# Altium integrated library NSC LDO.IntLib: 2590 symbols (part 2 of 64)
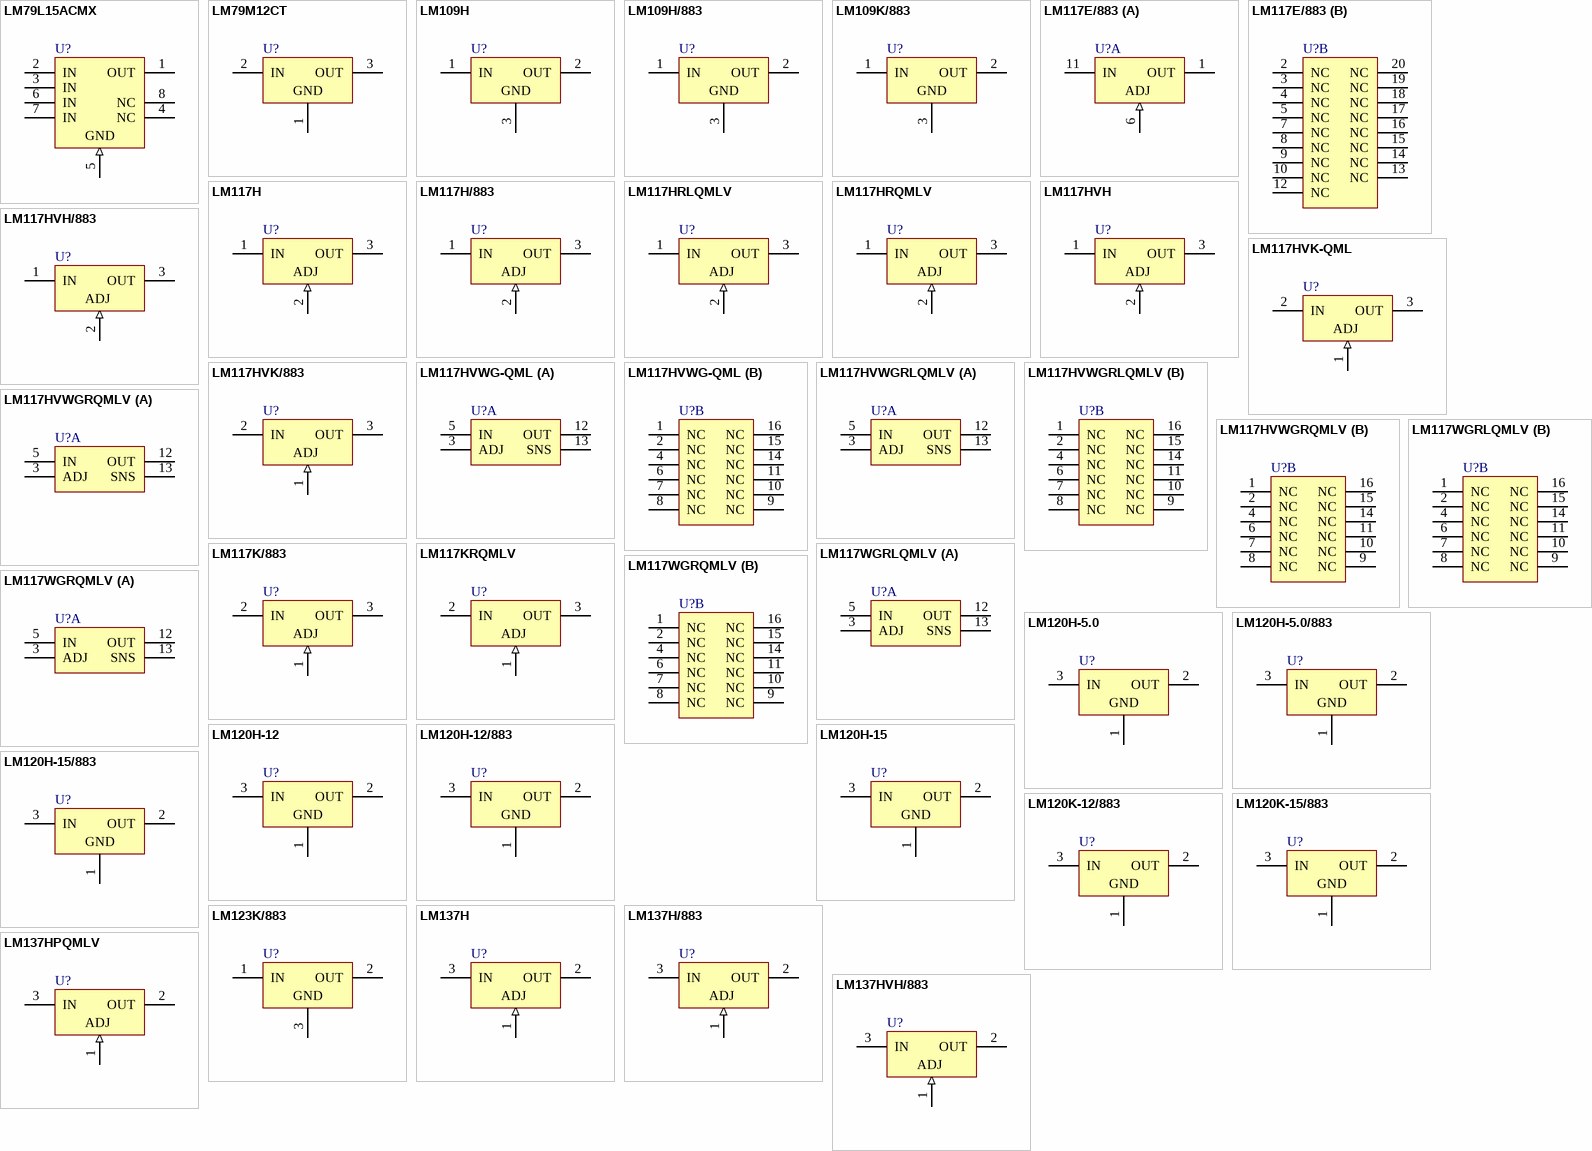
[diagram p66: symbols LM79L15ACMX to LM137HVH/883]

## LM117E/883
designator U?
3-Terminal Adjustable Regulator, 20-pin LCC; PartNumber: LM117E/883; Manufacturer: National Semiconductor; PackageTopMarking: NSZSSXXYYA*LM117E*/883 Q; PowerWise: N; CompType: LDO IC; High-Reliability: Y; Published: 4-Dec-2008; DatasheetVersion: Mar-2010; PackageVersion: revF, May-2004; PackageReference: E20A; Publisher: Altium Limited; PackageDescription: Leadless Chip Carrier, Type C, 20 Terminal; RoHS: N; PinCount: 20; Code_JEDEC: MS-004-CB; ComponentLink1Description: LM117 Datasheet; ComponentLink1URL: http://www.national.com/ds/LM/LM117QML.pdf; ComponentLink2Description: LM117 Web Page; ComponentLink2URL: http://www.national.com/pf/LM/LM117.html; ComponentLink3Description: E20A Package Page; ComponentLink3URL: http://www.national.com/packaging/folders/e20a.html
footprint E20A_N (Leadless Chip Carrier, 20-Leads, Body 8.9x8.9mm, Pitch 1.27mm, IPC Medium Density)
footprint E20A_L (Leadless Chip Carrier, 20-Leads, Body 8.9x8.9mm, Pitch 1.27mm, IPC High Density)
footprint E20A_M (Leadless Chip Carrier, 20-Leads, Body 8.9x8.9mm, Pitch 1.27mm, IPC Low Density)
part A pins: 1 OUT (power), 6 ADJ (in), 11 IN (power)
part B pins: 2 NC, 3 NC, 4 NC, 5 NC, 7 NC, 8 NC, 9 NC, 10 NC, 12 NC, 13 NC, 14 NC, 15 NC, 16 NC, 17 NC, 18 NC, 19 NC, 20 NC

## LM117H
designator U?
3-Terminal Adjustable Regulator, 3-pin TO-39; PartNumber: LM117H; Manufacturer: National Semiconductor; PackageTopMarking: NSZXYTTE# LM117HP+; PowerWise: N; CompType: LDO IC; High-Reliability: Y; Published: 4-Dec-2008; DatasheetVersion: Mar-2010; PackageVersion: revD, Feb-1995; PackageReference: H03A; Publisher: Altium Limited; PackageDescription: Metal Can, TO-39, 3 Lead, .200in Dia, P.C.; Supplier 1: Farnell; Supplier Part Number 1: 1216176; RoHS: N; PinCount: 3; Code_JEDEC: TO-39; ComponentLink1Description: LM117 Datasheet; ComponentLink1URL: http://www.national.com/ds/LM/LM117.pdf; ComponentLink2Description: LM117 Web Page; ComponentLink2URL: http://www.national.com/pf/LM/LM117.html; ComponentLink3Description: H03A Package Page; ComponentLink3URL: http://www.national.com/packaging/folders/h03a.html
footprint H03A (Can; 3 Leads; Pin Circle Dia. 5.08 mm; Lead Dia. 0.48 mm (max))
pins: 1 IN (power), 2 ADJ (in), 3 OUT (power)

## LM117H/883
designator U?
3-Terminal Adjustable Regulator, 3-pin TO-39; PartNumber: LM117H/883; Manufacturer: National Semiconductor; PackageTopMarking: NSZSSXXYYA LM117H/883 Q; PowerWise: N; CompType: LDO IC; High-Reliability: Y; Published: 4-Dec-2008; DatasheetVersion: Mar-2010; PackageVersion: revD, Feb-1995; PackageReference: H03A; Publisher: Altium Limited; PackageDescription: Metal Can, TO-39, 3 Lead, .200in Dia, P.C.; RoHS: N; PinCount: 3; Code_JEDEC: TO-39; ComponentLink1Description: LM117 Datasheet; ComponentLink1URL: http://www.national.com/ds/LM/LM117QML.pdf; ComponentLink2Description: LM117 Web Page; ComponentLink2URL: http://www.national.com/pf/LM/LM117.html; ComponentLink3Description: H03A Package Page; ComponentLink3URL: http://www.national.com/packaging/folders/h03a.html
footprint H03A (Can; 3 Leads; Pin Circle Dia. 5.08 mm; Lead Dia. 0.48 mm (max))
pins: 1 IN (power), 2 ADJ (in), 3 OUT (power)

## LM117HRLQMLV
designator U?
3-Terminal Adjustable Regulator, 3-pin TO-39; PartNumber: LM117HRLQMLV; Manufacturer: National Semiconductor; PackageTopMarking: NSZSSXXYYA 5962R99517*05VXA LM117HRLQV Q; PowerWise: N; CompType: LDO IC; High-Reliability: Y; Published: 4-Dec-2008; DatasheetVersion: Mar-2010; PackageVersion: revD, Feb-1995; PackageReference: H03A; Publisher: Altium Limited; PackageDescription: Metal Can, TO-39, 3 Lead, .200in Dia, P.C.; RoHS: N; PinCount: 3; Code_JEDEC: TO-39; ComponentLink1Description: LM117 Datasheet; ComponentLink1URL: http://www.national.com/ds/LM/LM117QML.pdf; ComponentLink2Description: LM117 Web Page; ComponentLink2URL: http://www.national.com/pf/LM/LM117.html; ComponentLink3Description: H03A Package Page; ComponentLink3URL: http://www.national.com/packaging/folders/h03a.html
footprint H03A (Can; 3 Leads; Pin Circle Dia. 5.08 mm; Lead Dia. 0.48 mm (max))
pins: 1 IN (power), 2 ADJ (in), 3 OUT (power)

## LM117HRQMLV
designator U?
3-Terminal Adjustable Regulator, 3-pin TO-39; PartNumber: LM117HRQMLV; Manufacturer: National Semiconductor; PackageTopMarking: NSZSSXXYYA*03VXA LM117HRQV Q; PowerWise: N; CompType: LDO IC; High-Reliability: Y; Published: 4-Dec-2008; DatasheetVersion: Mar-2010; PackageVersion: revD, Feb-1995; PackageReference: H03A; Publisher: Altium Limited; PackageDescription: Metal Can, TO-39, 3 Lead, .200in Dia, P.C.; RoHS: N; PinCount: 3; Code_JEDEC: TO-39; ComponentLink1Description: LM117 Datasheet; ComponentLink1URL: http://www.national.com/ds/LM/LM117QML.pdf; ComponentLink2Description: LM117 Web Page; ComponentLink2URL: http://www.national.com/pf/LM/LM117.html; ComponentLink3Description: H03A Package Page; ComponentLink3URL: http://www.national.com/packaging/folders/h03a.html
footprint H03A (Can; 3 Leads; Pin Circle Dia. 5.08 mm; Lead Dia. 0.48 mm (max))
pins: 1 IN (power), 2 ADJ (in), 3 OUT (power)

## LM117HVH
designator U?
3-Terminal Adjustable Regulator, 3-pin TO-39; PartNumber: LM117HVH; Manufacturer: National Semiconductor; PackageTopMarking: NSZXYTTE# LM117HVHP+; PowerWise: N; CompType: LDO IC; High-Reliability: Y; Published: 4-Dec-2008; DatasheetVersion: Apr-2000; PackageVersion: revD, Feb-1995; PackageReference: H03A; Publisher: Altium Limited; PackageDescription: Metal Can, TO-39, 3 Lead, .200in Dia, P.C.; Supplier 1: Farnell; Supplier Part Number 1: 1652288; RoHS: N; PinCount: 3; Code_JEDEC: TO-39; ComponentLink1Description: LM117HV Datasheet; ComponentLink1URL: http://www.national.com/ds/LM/LM117HV.pdf; ComponentLink2Description: LM117HV Web Page; ComponentLink2URL: http://www.national.com/pf/LM/LM117HV.html; ComponentLink3Description: H03A Package Page; ComponentLink3URL: http://www.national.com/packaging/folders/h03a.html
footprint H03A (Can; 3 Leads; Pin Circle Dia. 5.08 mm; Lead Dia. 0.48 mm (max))
pins: 1 IN (power), 2 ADJ (in), 3 OUT (power)

## LM117HVH/883
designator U?
3-Terminal Adjustable Regulator, 3-pin TO-39; PartNumber: LM117HVH/883; Manufacturer: National Semiconductor; PackageTopMarking: NS ZSSXXYYA*LM117HVH/883 Q; PowerWise: N; CompType: LDO IC; High-Reliability: Y; Published: 4-Dec-2008; DatasheetVersion: Apr-2000; PackageVersion: revD, Feb-1995; PackageReference: H03A; Publisher: Altium Limited; PackageDescription: Metal Can, TO-39, 3 Lead, .200in Dia, P.C.; RoHS: N; PinCount: 3; Code_JEDEC: TO-39; ComponentLink1Description: LM117HV Datasheet; ComponentLink1URL: http://www.national.com/ds/LM/LM117HVQML.pdf; ComponentLink2Description: LM117HV Web Page; ComponentLink2URL: http://www.national.com/pf/LM/LM117HV.html; ComponentLink3Description: H03A Package Page; ComponentLink3URL: http://www.national.com/packaging/folders/h03a.html
footprint H03A (Can; 3 Leads; Pin Circle Dia. 5.08 mm; Lead Dia. 0.48 mm (max))
pins: 1 IN (power), 2 ADJ (in), 3 OUT (power)

## LM117HVK-QML
designator U?
3-Terminal Adjustable Regulator, 3-pin TO-3; PartNumber: LM117HVK-QML; Manufacturer: National Semiconductor; PackageTopMarking: NSZSSXXYYA*-0722903QYA*LM117HVK*-QML Q; PowerWise: N; CompType: LDO IC; High-Reliability: Y; Published: 4-Dec-2008; DatasheetVersion: Apr-2000; PackageVersion: revE, Sep-1995; PackageReference: K02C; Publisher: Altium Limited; PackageDescription: Metal Can TO-3, 2 Lead, Low Profile; RoHS: N; PinCount: 2; ComponentLink1Description: LM117HV Datasheet; ComponentLink1URL: http://www.national.com/ds/LM/LM117HVQML.pdf; ComponentLink2Description: LM117HV Web Page; ComponentLink2URL: http://www.national.com/pf/LM/LM117HV.html; ComponentLink3Description: K02C Package Page; ComponentLink3URL: http://www.national.com/packaging/folders/k02c.html
footprint K02C (Oval Flange Mount with (2) Offset Leads; Pin Spacing 10.92 mm; Lead Dia. 1.09 mm (max))
pins: 1 ADJ (in), 2 IN (power), 3 OUT (power)

## LM117HVK/883
designator U?
3-Terminal Adjustable Regulator, 3-pin TO-3; PartNumber: LM117HVK/883; Manufacturer: National Semiconductor; PowerWise: N; CompType: LDO IC; High-Reliability: Y; Published: 4-Dec-2008; DatasheetVersion: Apr-2000; PackageVersion: revE, Sep-1995; PackageReference: K02C; Publisher: Altium Limited; PackageDescription: Metal Can TO-3, 2 Lead, Low Profile; Supplier 1: Digi-Key; Supplier Part Number 1: LM117HVK/883-ND; RoHS: N; PinCount: 2; ComponentLink1Description: LM117HV Datasheet; ComponentLink1URL: http://www.national.com/ds/LM/LM117HVQML.pdf; ComponentLink2Description: LM117HV Web Page; ComponentLink2URL: http://www.national.com/pf/LM/LM117HV.html; ComponentLink3Description: K02C Package Page; ComponentLink3URL: http://www.national.com/packaging/folders/k02c.html
footprint K02C (Oval Flange Mount with (2) Offset Leads; Pin Spacing 10.92 mm; Lead Dia. 1.09 mm (max))
pins: 1 ADJ (in), 2 IN (power), 3 OUT (power)

## LM117HVWG-QML
designator U?
3-Terminal Adjustable Regulator, 16-pin CerPACK; PartNumber: LM117HVWG-QML; Manufacturer: National Semiconductor; PackageTopMarking: NSZSSXXYYA*LM117HVWG*QML Q 5962*-0722901QZA; PowerWise: N; CompType: LDO IC; High-Reliability: Y; Published: 29-May-2009; DatasheetVersion: Feb-2008; PackageVersion: revE, Jul-2007; PackageReference: WG16A; Publisher: Altium Limited; PackageDescription: Cerpack, .390 x .250 x .070in, 16 Lead, .050in Pitch, Gull Wing; RoHS: N; PinCount: 16; ComponentLink1Description: LM117HV Datasheet; ComponentLink1URL: http://www.national.com/ds/LM/LM117HVQML.pdf; ComponentLink2Description: LM117HV Web Page; ComponentLink2URL: http://www.national.com/pf/LM/LM117HV.html; ComponentLink3Description: WG16A Package Page; ComponentLink3URL: http://www.national.com/packaging/folders/wg16a.html
footprint WG16A_N (CERPACK, 16-Leads, Body 9.9x6.5mm, Pitch 1.27mm, IPC Medium Density)
footprint WG16A_L (CERPACK, 16-Leads, Body 9.9x6.5mm, Pitch 1.27mm, IPC High Density)
footprint WG16A_M (CERPACK, 16-Leads, Body 9.9x6.5mm, Pitch 1.27mm, IPC Low Density)
part A pins: 3 ADJ, 5 IN (power), 12 OUT (power), 13 SNS
part B pins: 1 NC (power), 2 NC, 4 NC, 6 NC, 7 NC, 8 NC, 9 NC, 10 NC, 11 NC, 14 NC, 15 NC, 16 NC

## LM117HVWGRLQMLV
designator U?
3-Terminal Adjustable Regulator, 16-pin CerPACK; PartNumber: LM117HVWGRLQMLV; Manufacturer: National Semiconductor; PackageTopMarking: NSZSSXXYYA*LM117HVWGRL*QV Q 5962R*0722961VZA; PowerWise: N; CompType: LDO IC; High-Reliability: Y; Published: 29-May-2009; DatasheetVersion: Feb-2008; PackageVersion: revE, Jul-2007; PackageReference: WG16A; Publisher: Altium Limited; PackageDescription: Cerpack, .390 x .250 x .070in, 16 Lead, .050in Pitch, Gull Wing; RoHS: N; PinCount: 16; ComponentLink1Description: LM117HV Datasheet; ComponentLink1URL: http://www.national.com/ds/LM/LM117HVQML.pdf; ComponentLink2Description: LM117HV Web Page; ComponentLink2URL: http://www.national.com/pf/LM/LM117HV.html; ComponentLink3Description: WG16A Package Page; ComponentLink3URL: http://www.national.com/packaging/folders/wg16a.html
footprint WG16A_N (CERPACK, 16-Leads, Body 9.9x6.5mm, Pitch 1.27mm, IPC Medium Density)
footprint WG16A_L (CERPACK, 16-Leads, Body 9.9x6.5mm, Pitch 1.27mm, IPC High Density)
footprint WG16A_M (CERPACK, 16-Leads, Body 9.9x6.5mm, Pitch 1.27mm, IPC Low Density)
part A pins: 3 ADJ, 5 IN (power), 12 OUT (power), 13 SNS
part B pins: 1 NC (power), 2 NC, 4 NC, 6 NC, 7 NC, 8 NC, 9 NC, 10 NC, 11 NC, 14 NC, 15 NC, 16 NC

## LM117HVWGRQMLV
designator U?
3-Terminal Adjustable Regulator, 16-pin CerPACK; PartNumber: LM117HVWGRQMLV; Manufacturer: National Semiconductor; PackageTopMarking: NSZSSXXYYA*LM117HVWGR*QV Q 5962R*0722901VZA; PowerWise: N; CompType: LDO IC; High-Reliability: Y; Published: 29-May-2009; DatasheetVersion: Feb-2008; PackageVersion: revE, Jul-2007; PackageReference: WG16A; Publisher: Altium Limited; PackageDescription: Cerpack, .390 x .250 x .070in, 16 Lead, .050in Pitch, Gull Wing; RoHS: N; PinCount: 16; ComponentLink1Description: LM117HV Datasheet; ComponentLink1URL: http://www.national.com/ds/LM/LM117HVQML.pdf; ComponentLink2Description: LM117HV Web Page; ComponentLink2URL: http://www.national.com/pf/LM/LM117HV.html; ComponentLink3Description: WG16A Package Page; ComponentLink3URL: http://www.national.com/packaging/folders/wg16a.html
footprint WG16A_N (CERPACK, 16-Leads, Body 9.9x6.5mm, Pitch 1.27mm, IPC Medium Density)
footprint WG16A_L (CERPACK, 16-Leads, Body 9.9x6.5mm, Pitch 1.27mm, IPC High Density)
footprint WG16A_M (CERPACK, 16-Leads, Body 9.9x6.5mm, Pitch 1.27mm, IPC Low Density)
part A pins: 3 ADJ, 5 IN (power), 12 OUT (power), 13 SNS
part B pins: 1 NC (power), 2 NC, 4 NC, 6 NC, 7 NC, 8 NC, 9 NC, 10 NC, 11 NC, 14 NC, 15 NC, 16 NC

## LM117K/883
designator U?
3-Terminal Adjustable Regulator, 3-pin TO-3; PartNumber: LM117K/883; Manufacturer: National Semiconductor; PackageTopMarking: NSZSSXXYYA*LM117K/883* Q; PowerWise: N; CompType: LDO IC; High-Reliability: Y; Published: 4-Dec-2008; DatasheetVersion: Mar-2010; PackageVersion: revE, Sep-1995; PackageReference: K02C; Publisher: Altium Limited; PackageDescription: Metal Can TO-3, 2 Lead, Low Profile; RoHS: N; PinCount: 2; ComponentLink1Description: LM117 Datasheet; ComponentLink1URL: http://www.national.com/ds/LM/LM117QML.pdf; ComponentLink2Description: LM117 Web Page; ComponentLink2URL: http://www.national.com/pf/LM/LM117.html; ComponentLink3Description: K02C Package Page; ComponentLink3URL: http://www.national.com/packaging/folders/k02c.html
footprint K02C (Oval Flange Mount with (2) Offset Leads; Pin Spacing 10.92 mm; Lead Dia. 1.09 mm (max))
pins: 1 ADJ (in), 2 IN (power), 3 OUT (power)

## LM117KRQMLV
designator U?
3-Terminal Adjustable Regulator, 3-pin TO-3; PartNumber: LM117KRQMLV; Manufacturer: National Semiconductor; PackageTopMarking: NSZSSXXYYA*R9951704VYA*LM117KRQV Q; PowerWise: N; CompType: LDO IC; High-Reliability: Y; Published: 4-Dec-2008; DatasheetVersion: Mar-2010; PackageVersion: revE, Sep-1995; PackageReference: K02C; Publisher: Altium Limited; PackageDescription: Metal Can TO-3, 2 Lead, Low Profile; RoHS: N; PinCount: 2; ComponentLink1Description: LM117 Datasheet; ComponentLink1URL: http://www.national.com/ds/LM/LM117QML.pdf; ComponentLink2Description: LM117 Web Page; ComponentLink2URL: http://www.national.com/pf/LM/LM117.html; ComponentLink3Description: K02C Package Page; ComponentLink3URL: http://www.national.com/packaging/folders/k02c.html
footprint K02C (Oval Flange Mount with (2) Offset Leads; Pin Spacing 10.92 mm; Lead Dia. 1.09 mm (max))
pins: 1 ADJ (in), 2 IN (power), 3 OUT (power)

## LM117WGRLQMLV
designator U?
3-Terminal Adjustable Regulator, 16-pin CerPACK; PartNumber: LM117WGRLQMLV; Manufacturer: National Semiconductor; PackageTopMarking: NSZSSXXYYA*LM117WGRL*QV Q 5962R*9951705VZA; PowerWise: N; CompType: LDO IC; High-Reliability: Y; Published: 29-May-2009; DatasheetVersion: Jun-2006; PackageVersion: revE, Jul-2007; PackageReference: WG16A; Publisher: Altium Limited; PackageDescription: Cerpack, .390 x .250 x .070in, 16 Lead, .050in Pitch, Gull Wing; RoHS: N; PinCount: 16; ComponentLink1Description: LM117 Datasheet; ComponentLink1URL: http://www.national.com/ds/LM/LM117QML.pdf; ComponentLink2Description: LM117 Web Page; ComponentLink2URL: http://www.national.com/pf/LM/LM117.html; ComponentLink3Description: WG16A Package Page; ComponentLink3URL: http://www.national.com/packaging/folders/wg16a.html
footprint WG16A_N (CERPACK, 16-Leads, Body 9.9x6.5mm, Pitch 1.27mm, IPC Medium Density)
footprint WG16A_L (CERPACK, 16-Leads, Body 9.9x6.5mm, Pitch 1.27mm, IPC High Density)
footprint WG16A_M (CERPACK, 16-Leads, Body 9.9x6.5mm, Pitch 1.27mm, IPC Low Density)
part A pins: 3 ADJ, 5 IN (power), 12 OUT (power), 13 SNS
part B pins: 1 NC (power), 2 NC, 4 NC, 6 NC, 7 NC, 8 NC, 9 NC, 10 NC, 11 NC, 14 NC, 15 NC, 16 NC

## LM117WGRQMLV
designator U?
3-Terminal Adjustable Regulator, 16-pin CerPACK; PartNumber: LM117WGRQMLV; Manufacturer: National Semiconductor; PackageTopMarking: NSZSSXXYYA*LM117WGR*QV Q 5962R*9951703VZA; PowerWise: N; CompType: LDO IC; High-Reliability: Y; Published: 29-May-2009; DatasheetVersion: Jun-2006; PackageVersion: revE, Jul-2007; PackageReference: WG16A; Publisher: Altium Limited; PackageDescription: Cerpack, .390 x .250 x .070in, 16 Lead, .050in Pitch, Gull Wing; RoHS: N; PinCount: 16; ComponentLink1Description: LM117 Datasheet; ComponentLink1URL: http://www.national.com/ds/LM/LM117QML.pdf; ComponentLink2Description: LM117 Web Page; ComponentLink2URL: http://www.national.com/pf/LM/LM117.html; ComponentLink3Description: WG16A Package Page; ComponentLink3URL: http://www.national.com/packaging/folders/wg16a.html
footprint WG16A_N (CERPACK, 16-Leads, Body 9.9x6.5mm, Pitch 1.27mm, IPC Medium Density)
footprint WG16A_L (CERPACK, 16-Leads, Body 9.9x6.5mm, Pitch 1.27mm, IPC High Density)
footprint WG16A_M (CERPACK, 16-Leads, Body 9.9x6.5mm, Pitch 1.27mm, IPC Low Density)
part A pins: 3 ADJ, 5 IN (power), 12 OUT (power), 13 SNS
part B pins: 1 NC (power), 2 NC, 4 NC, 6 NC, 7 NC, 8 NC, 9 NC, 10 NC, 11 NC, 14 NC, 15 NC, 16 NC

## LM120H-5.0
designator U?
Series 3-Terminal Negative Regulators, 3-pin TO-39; PartNumber: LM120H-5.0; Manufacturer: National Semiconductor; PackageTopMarking: NSZXYTTE# LM120H-5.0P+; PowerWise: N; CompType: LDO IC; High-Reliability: Y; Published: 4-Dec-2008; DatasheetVersion: Nov-2007; PackageVersion: revD, Feb-1995; PackageReference: H03A; Publisher: Altium Limited; PackageDescription: Metal Can, TO-39, 3 Lead, .200in Dia, P.C.; RoHS: N; PinCount: 3; Code_JEDEC: TO-39; ComponentLink1Description: LM120 Datasheet; ComponentLink1URL: http://www.national.com/ds/LM/LM120.pdf; ComponentLink2Description: LM120 Web Page; ComponentLink2URL: http://www.national.com/pf/LM/LM120.html; ComponentLink3Description: H03A Package Page; ComponentLink3URL: http://www.national.com/packaging/folders/h03a.html
footprint H03A (Can; 3 Leads; Pin Circle Dia. 5.08 mm; Lead Dia. 0.48 mm (max))
pins: 1 GND (power), 2 OUT (power), 3 IN (power)

## LM120H-5.0/883
designator U?
Series 3-Terminal Negative Regulators, 3-pin TO-39; PartNumber: LM120H-5.0/883; Manufacturer: National Semiconductor; PackageTopMarking: NS ZSSXXYYA*LM120H-5.0/883 Q; PowerWise: N; CompType: LDO IC; High-Reliability: Y; Published: 4-Dec-2008; DatasheetVersion: Nov-2007; PackageVersion: revD, Feb-1995; PackageReference: H03A; Publisher: Altium Limited; PackageDescription: Metal Can, TO-39, 3 Lead, .200in Dia, P.C.; RoHS: N; PinCount: 3; Code_JEDEC: TO-39; ComponentLink1Description: LM120 Datasheet; ComponentLink1URL: http://www.national.com/ds/LM/LM120.pdf; ComponentLink2Description: LM120 Web Page; ComponentLink2URL: http://www.national.com/pf/LM/LM120.html; ComponentLink3Description: H03A Package Page; ComponentLink3URL: http://www.national.com/packaging/folders/h03a.html
footprint H03A (Can; 3 Leads; Pin Circle Dia. 5.08 mm; Lead Dia. 0.48 mm (max))
pins: 1 GND (power), 2 OUT (power), 3 IN (power)

## LM120H-12
designator U?
Series 3-Terminal Negative Regulators, 3-pin TO-39; PartNumber: LM120H-12; Manufacturer: National Semiconductor; PackageTopMarking: NSZXYTTE# LM120H-12P+; PowerWise: N; CompType: LDO IC; High-Reliability: Y; Published: 4-Dec-2008; DatasheetVersion: Nov-2007; PackageVersion: revD, Feb-1995; PackageReference: H03A; Publisher: Altium Limited; PackageDescription: Metal Can, TO-39, 3 Lead, .200in Dia, P.C.; RoHS: N; PinCount: 3; Code_JEDEC: TO-39; ComponentLink1Description: LM120 Datasheet; ComponentLink1URL: http://www.national.com/ds/LM/LM120.pdf; ComponentLink2Description: LM120 Web Page; ComponentLink2URL: http://www.national.com/pf/LM/LM120.html; ComponentLink3Description: H03A Package Page; ComponentLink3URL: http://www.national.com/packaging/folders/h03a.html
footprint H03A (Can; 3 Leads; Pin Circle Dia. 5.08 mm; Lead Dia. 0.48 mm (max))
pins: 1 GND (power), 2 OUT (power), 3 IN (power)

## LM120H-12/883
designator U?
Series 3-Terminal Negative Regulators, 3-pin TO-39; PartNumber: LM120H-12/883; Manufacturer: National Semiconductor; PackageTopMarking: NS ZSSXXYYA*LM120H-12/883 Q; PowerWise: N; CompType: LDO IC; High-Reliability: Y; Published: 4-Dec-2008; DatasheetVersion: Nov-2007; PackageVersion: revD, Feb-1995; PackageReference: H03A; Publisher: Altium Limited; PackageDescription: Metal Can, TO-39, 3 Lead, .200in Dia, P.C.; RoHS: N; PinCount: 3; Code_JEDEC: TO-39; ComponentLink1Description: LM120 Datasheet; ComponentLink1URL: http://www.national.com/ds/LM/LM120.pdf; ComponentLink2Description: LM120 Web Page; ComponentLink2URL: http://www.national.com/pf/LM/LM120.html; ComponentLink3Description: H03A Package Page; ComponentLink3URL: http://www.national.com/packaging/folders/h03a.html
footprint H03A (Can; 3 Leads; Pin Circle Dia. 5.08 mm; Lead Dia. 0.48 mm (max))
pins: 1 GND (power), 2 OUT (power), 3 IN (power)

## LM120H-15
designator U?
Series 3-Terminal Negative Regulators, 3-pin TO-39; PartNumber: LM120H-15; Manufacturer: National Semiconductor; PackageTopMarking: NSZXYTTE# LM120H-15P+; PowerWise: N; CompType: LDO IC; High-Reliability: Y; Published: 4-Dec-2008; DatasheetVersion: Nov-2007; PackageVersion: revD, Feb-1995; PackageReference: H03A; Publisher: Altium Limited; PackageDescription: Metal Can, TO-39, 3 Lead, .200in Dia, P.C.; RoHS: N; PinCount: 3; Code_JEDEC: TO-39; ComponentLink1Description: LM120 Datasheet; ComponentLink1URL: http://www.national.com/ds/LM/LM120.pdf; ComponentLink2Description: LM120 Web Page; ComponentLink2URL: http://www.national.com/pf/LM/LM120.html; ComponentLink3Description: H03A Package Page; ComponentLink3URL: http://www.national.com/packaging/folders/h03a.html
footprint H03A (Can; 3 Leads; Pin Circle Dia. 5.08 mm; Lead Dia. 0.48 mm (max))
pins: 1 GND (power), 2 OUT (power), 3 IN (power)

## LM120H-15/883
designator U?
Series 3-Terminal Negative Regulators, 3-pin TO-39; PartNumber: LM120H-15/883; Manufacturer: National Semiconductor; PackageTopMarking: NS ZSSXXYYA*LM120H-15/883 Q; PowerWise: N; CompType: LDO IC; High-Reliability: Y; Published: 4-Dec-2008; DatasheetVersion: Nov-2007; PackageVersion: revD, Feb-1995; PackageReference: H03A; Publisher: Altium Limited; PackageDescription: Metal Can, TO-39, 3 Lead, .200in Dia, P.C.; RoHS: N; PinCount: 3; Code_JEDEC: TO-39; ComponentLink1Description: LM120 Datasheet; ComponentLink1URL: http://www.national.com/ds/LM/LM120.pdf; ComponentLink2Description: LM120 Web Page; ComponentLink2URL: http://www.national.com/pf/LM/LM120.html; ComponentLink3Description: H03A Package Page; ComponentLink3URL: http://www.national.com/packaging/folders/h03a.html
footprint H03A (Can; 3 Leads; Pin Circle Dia. 5.08 mm; Lead Dia. 0.48 mm (max))
pins: 1 GND (power), 2 OUT (power), 3 IN (power)

## LM120K-12/883
designator U?
Series 3-Terminal Negative Regulators, 3-pin TO-3; PartNumber: LM120K-12/883; Manufacturer: National Semiconductor; PackageTopMarking: NS ZSSXXYYA*LM120K-12*/883 Q; PowerWise: N; CompType: LDO IC; High-Reliability: Y; Published: 4-Dec-2008; DatasheetVersion: Nov-2007; PackageVersion: revE, Sep-1995; PackageReference: K02C; Publisher: Altium Limited; PackageDescription: Metal Can TO-3, 2 Lead, Low Profile; RoHS: N; PinCount: 2; ComponentLink1Description: LM120 Datasheet; ComponentLink1URL: http://www.national.com/ds/LM/LM120.pdf; ComponentLink2Description: LM120 Web Page; ComponentLink2URL: http://www.national.com/pf/LM/LM120.html; ComponentLink3Description: K02C Package Page; ComponentLink3URL: http://www.national.com/packaging/folders/k02c.html
footprint K02C (Oval Flange Mount with (2) Offset Leads; Pin Spacing 10.92 mm; Lead Dia. 1.09 mm (max))
pins: 1 GND (power), 2 OUT (power), 3 IN (power)

## LM120K-15/883
designator U?
Series 3-Terminal Negative Regulators, 3-pin TO-3; PartNumber: LM120K-15/883; Manufacturer: National Semiconductor; PackageTopMarking: NS ZSSXXYYA*LM120K-15*/883 Q; PowerWise: N; CompType: LDO IC; High-Reliability: Y; Published: 4-Dec-2008; DatasheetVersion: Nov-2007; PackageVersion: revE, Sep-1995; PackageReference: K02C; Publisher: Altium Limited; PackageDescription: Metal Can TO-3, 2 Lead, Low Profile; RoHS: N; PinCount: 2; ComponentLink1Description: LM120 Datasheet; ComponentLink1URL: http://www.national.com/ds/LM/LM120.pdf; ComponentLink2Description: LM120 Web Page; ComponentLink2URL: http://www.national.com/pf/LM/LM120.html; ComponentLink3Description: K02C Package Page; ComponentLink3URL: http://www.national.com/packaging/folders/k02c.html
footprint K02C (Oval Flange Mount with (2) Offset Leads; Pin Spacing 10.92 mm; Lead Dia. 1.09 mm (max))
pins: 1 GND (power), 2 OUT (power), 3 IN (power)

## LM123K/883
designator U?
3-Amp, 5-Volt Positive Regulator, 3-pin TO-3; PartNumber: LM123K/883; Manufacturer: National Semiconductor; PackageTopMarking: NSZSSXXYYA*LM123K/883*Q; PowerWise: N; CompType: LDO IC; High-Reliability: Y; Published: 4-Dec-2008; DatasheetVersion: Apr-1998; PackageVersion: revE, Sep-1995; PackageReference: K02C; Publisher: Altium Limited; PackageDescription: Metal Can TO-3, 2 Lead, Low Profile; RoHS: N; PinCount: 2; ComponentLink1Description: LM123 Datasheet; ComponentLink1URL: http://www.national.com/ds/LM/LM123.pdf; ComponentLink2Description: LM123 Web Page; ComponentLink2URL: http://www.national.com/pf/LM/LM123.html; ComponentLink3Description: K02C Package Page; ComponentLink3URL: http://www.national.com/packaging/folders/k02c.html
footprint K02C (Oval Flange Mount with (2) Offset Leads; Pin Spacing 10.92 mm; Lead Dia. 1.09 mm (max))
pins: 1 IN (power), 2 OUT (power), 3 GND (power)

## LM137H
designator U?
3-Terminal Adjustable Negative Regulator, 3-pin TO-39; PartNumber: LM137H; Manufacturer: National Semiconductor; PackageTopMarking: NSZXYTTE# LM137HP+; PowerWise: N; CompType: LDO IC; High-Reliability: Y; Published: 4-Dec-2008; DatasheetVersion: Nov-2004; PackageVersion: revD, Feb-1995; PackageReference: H03A; Publisher: Altium Limited; PackageDescription: Metal Can, TO-39, 3 Lead, .200in Dia, P.C.; RoHS: N; PinCount: 3; Code_JEDEC: TO-39; ComponentLink1Description: LM137 Datasheet; ComponentLink1URL: http://www.national.com/ds/LM/LM137.pdf; ComponentLink2Description: LM137 Web Page; ComponentLink2URL: http://www.national.com/pf/LM/LM137.html; ComponentLink3Description: H03A Package Page; ComponentLink3URL: http://www.national.com/packaging/folders/h03a.html
footprint H03A (Can; 3 Leads; Pin Circle Dia. 5.08 mm; Lead Dia. 0.48 mm (max))
pins: 1 ADJ (in), 2 OUT (power), 3 IN (power)

## LM137H/883
designator U?
3-Terminal Adjustable Negative Regulator, 3-pin TO-39; PartNumber: LM137H/883; Manufacturer: National Semiconductor; PackageTopMarking: NS ZSSXXYYA*LM137H/883 Q; PowerWise: N; CompType: LDO IC; High-Reliability: Y; Published: 4-Dec-2008; DatasheetVersion: Nov-2004; PackageVersion: revD, Feb-1995; PackageReference: H03A; Publisher: Altium Limited; PackageDescription: Metal Can, TO-39, 3 Lead, .200in Dia, P.C.; RoHS: N; PinCount: 3; Code_JEDEC: TO-39; ComponentLink1Description: LM137 Datasheet; ComponentLink1URL: http://www.national.com/ds/LM/LM137.pdf; ComponentLink2Description: LM137 Web Page; ComponentLink2URL: http://www.national.com/pf/LM/LM137.html; ComponentLink3Description: H03A Package Page; ComponentLink3URL: http://www.national.com/packaging/folders/h03a.html
footprint H03A (Can; 3 Leads; Pin Circle Dia. 5.08 mm; Lead Dia. 0.48 mm (max))
pins: 1 ADJ (in), 2 OUT (power), 3 IN (power)

## LM137HPQMLV
designator U?
3-Terminal Adjustable Negative Regulator, 3-pin TO-39; PartNumber: LM137HPQMLV; Manufacturer: National Semiconductor; PackageTopMarking: NSZSSXXYYA*9951701VXA LM137HPQV Q; PowerWise: N; CompType: LDO IC; High-Reliability: Y; Published: 4-Dec-2008; DatasheetVersion: Nov-2004; PackageVersion: revD, Feb-1995; PackageReference: H03A; Publisher: Altium Limited; PackageDescription: Metal Can, TO-39, 3 Lead, .200in Dia, P.C.; RoHS: N; PinCount: 3; Code_JEDEC: TO-39; ComponentLink1Description: LM137 Datasheet; ComponentLink1URL: http://www.national.com/ds/LM/LM137.pdf; ComponentLink2Description: LM137 Web Page; ComponentLink2URL: http://www.national.com/pf/LM/LM137.html; ComponentLink3Description: H03A Package Page; ComponentLink3URL: http://www.national.com/packaging/folders/h03a.html
footprint H03A (Can; 3 Leads; Pin Circle Dia. 5.08 mm; Lead Dia. 0.48 mm (max))
pins: 1 ADJ (in), 2 OUT (power), 3 IN (power)

## LM137HVH/883
designator U?
3-Terminal Adjustable Negative Regulator (High Voltage), 3-pin TO-39; PartNumber: LM137HVH/883; Manufacturer: National Semiconductor; PackageTopMarking: NS ZSSXXYYA*LM137HVH/883 Q; PowerWise: N; CompType: LDO IC; High-Reliability: Y; Published: 4-Dec-2008; DatasheetVersion: May-1999; PackageVersion: revD, Feb-1995; PackageReference: H03A; Publisher: Altium Limited; PackageDescription: Metal Can, TO-39, 3 Lead, .200in Dia, P.C.; RoHS: N; PinCount: 3; Code_JEDEC: TO-39; ComponentLink1Description: LM137HV Datasheet; ComponentLink1URL: http://www.national.com/ds/LM/LM137HV.pdf; ComponentLink2Description: LM137HV Web Page; ComponentLink2URL: http://www.national.com/pf/LM/LM137HV.html; ComponentLink3Description: H03A Package Page; ComponentLink3URL: http://www.national.com/packaging/folders/h03a.html
footprint H03A (Can; 3 Leads; Pin Circle Dia. 5.08 mm; Lead Dia. 0.48 mm (max))
pins: 1 ADJ (in), 2 OUT (power), 3 IN (power)

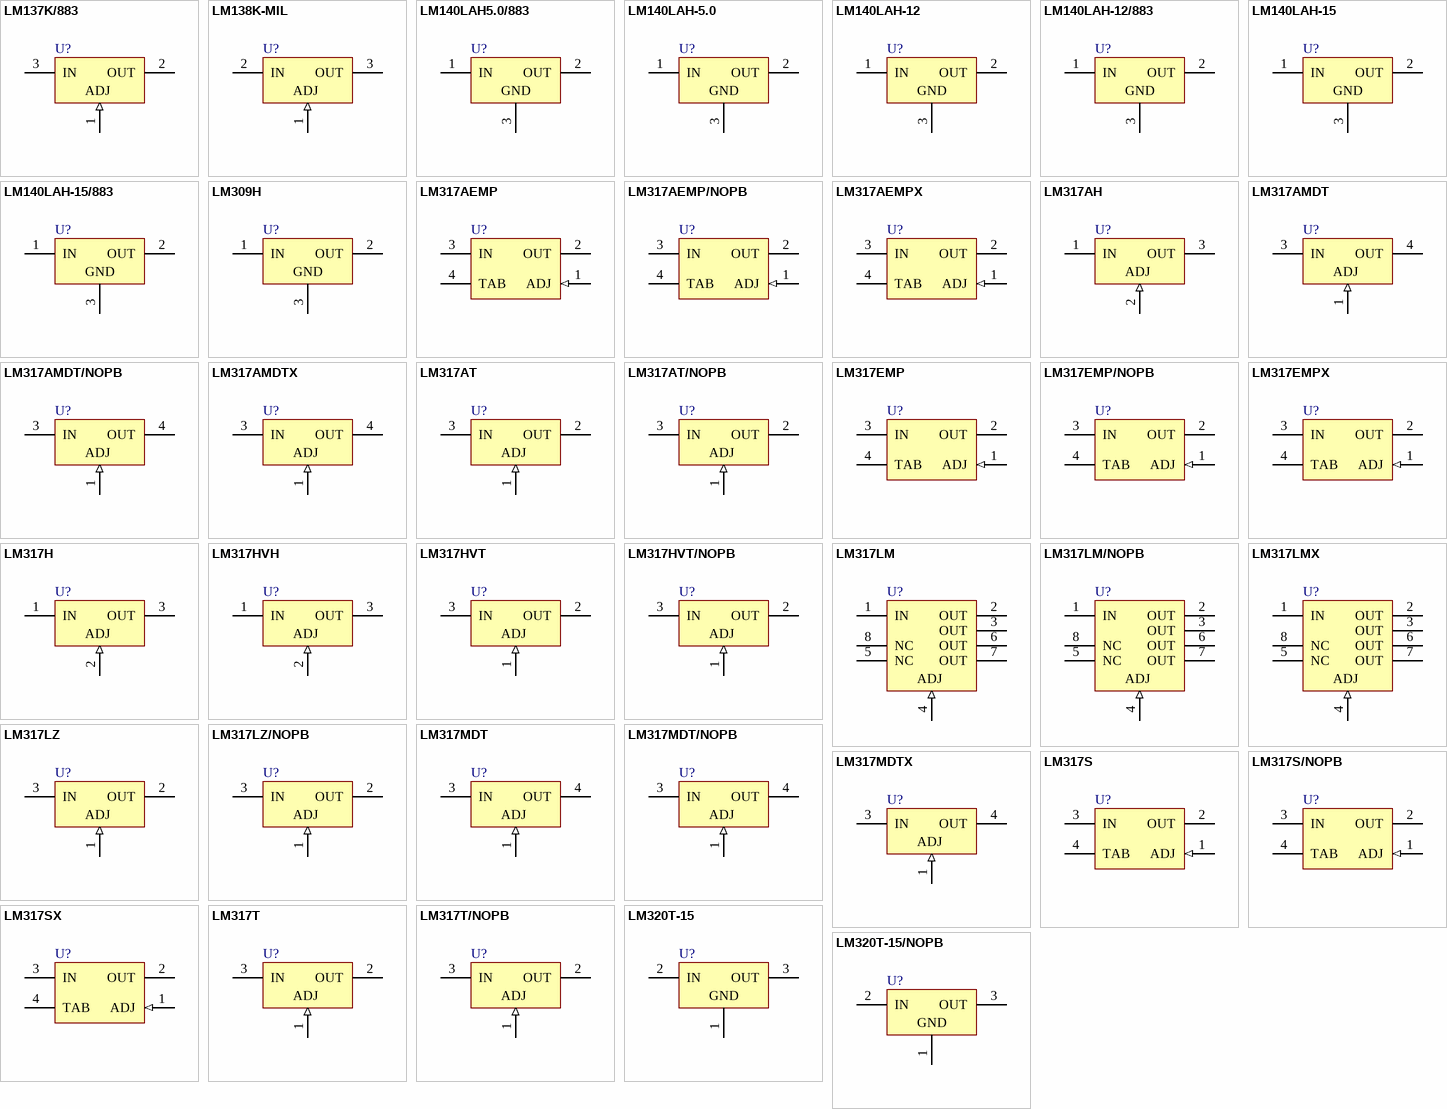
[diagram p2: symbols LM137K/883 to LM320T-15/NOPB]

## LM137K/883
designator U?
3-Terminal Adjustable Negative Regulator, 3-pin TO-3; PartNumber: LM137K/883; Manufacturer: National Semiconductor; PackageTopMarking: NSZSSXXYYA*LM137K/883*Q; PowerWise: N; CompType: LDO IC; High-Reliability: Y; Published: 4-Dec-2008; DatasheetVersion: Nov-2004; PackageVersion: revE, Sep-1995; PackageReference: K02C; Publisher: Altium Limited; PackageDescription: Metal Can TO-3, 2 Lead, Low Profile; RoHS: N; PinCount: 2; ComponentLink1Description: LM137 Datasheet; ComponentLink1URL: http://www.national.com/ds/LM/LM137.pdf; ComponentLink2Description: LM137 Web Page; ComponentLink2URL: http://www.national.com/pf/LM/LM137.html; ComponentLink3Description: K02C Package Page; ComponentLink3URL: http://www.national.com/packaging/folders/k02c.html
footprint K02C (Oval Flange Mount with (2) Offset Leads; Pin Spacing 10.92 mm; Lead Dia. 1.09 mm (max))
pins: 1 ADJ (in), 2 OUT (power), 3 IN (power)

## LM138K-MIL
designator U?
5 Amp Adjustable Regulator, 3-pin TO-3; PartNumber: LM138K-MIL; Manufacturer: National Semiconductor; PowerWise: N; CompType: LDO IC; High-Reliability: Y; Published: 4-Dec-2008; DatasheetVersion: May-1998; PackageVersion: revE, Sep-1995; PackageReference: K02C; Publisher: Altium Limited; PackageDescription: Metal Can TO-3, 2 Lead, Low Profile; RoHS: N; PinCount: 2; ComponentLink1Description: LM138 Datasheet; ComponentLink1URL: http://www.national.com/ds/LM/LM138.pdf; ComponentLink2Description: LM138 Web Page; ComponentLink2URL: http://www.national.com/pf/LM/LM138.html; ComponentLink3Description: K02C Package Page; ComponentLink3URL: http://www.national.com/packaging/folders/k02c.html
footprint K02C (Oval Flange Mount with (2) Offset Leads; Pin Spacing 10.92 mm; Lead Dia. 1.09 mm (max))
pins: 1 ADJ (in), 2 IN (power), 3 OUT (power)

## LM140LAH5.0/883
designator U?
Series 3-Terminal Positive Regulators, 3-pin TO-39; PartNumber: LM140LAH5.0/883; Manufacturer: National Semiconductor; PackageTopMarking: NS ZSSXXYYA*LM140LAH5.0/883 Q; PowerWise: N; CompType: LDO IC; High-Reliability: Y; Published: 4-Dec-2008; DatasheetVersion: Jul-2005; PackageVersion: revD, Feb-1995; PackageReference: H03A; Publisher: Altium Limited; PackageDescription: Metal Can, TO-39, 3 Lead, .200in Dia, P.C.; RoHS: N; PinCount: 3; Code_JEDEC: TO-39; ComponentLink1Description: LM140L Datasheet; ComponentLink1URL: http://www.national.com/ds/LM/LM140LQML.pdf; ComponentLink2Description: LM140L Web Page; ComponentLink2URL: http://www.national.com/pf/LM/LM140L.html; ComponentLink3Description: H03A Package Page; ComponentLink3URL: http://www.national.com/packaging/folders/h03a.html
footprint H03A (Can; 3 Leads; Pin Circle Dia. 5.08 mm; Lead Dia. 0.48 mm (max))
pins: 1 IN (power), 2 OUT (power), 3 GND (power)

## LM140LAH-5.0
designator U?
Series 3-Terminal Positive Regulators, 3-pin TO-39; PartNumber: LM140LAH-5.0; Manufacturer: National Semiconductor; PackageTopMarking: NSZXYTTE# LM140LAH-5.0; PowerWise: N; CompType: LDO IC; High-Reliability: Y; Published: 4-Dec-2008; DatasheetVersion: Jul-2005; PackageVersion: revD, Feb-1995; PackageReference: H03A; Publisher: Altium Limited; PackageDescription: Metal Can, TO-39, 3 Lead, .200in Dia, P.C.; Supplier 1: Farnell; Supplier Part Number 1: 1798312; RoHS: N; PinCount: 3; Code_JEDEC: TO-39; ComponentLink1Description: LM140L Datasheet; ComponentLink1URL: http://www.national.com/ds/LM/LM140L.pdf; ComponentLink2Description: LM140L Web Page; ComponentLink2URL: http://www.national.com/pf/LM/LM140L.html; ComponentLink3Description: H03A Package Page; ComponentLink3URL: http://www.national.com/packaging/folders/h03a.html
footprint H03A (Can; 3 Leads; Pin Circle Dia. 5.08 mm; Lead Dia. 0.48 mm (max))
pins: 1 IN (power), 2 OUT (power), 3 GND (power)

## LM140LAH-12
designator U?
Series 3-Terminal Positive Regulators, 3-pin TO-39; PartNumber: LM140LAH-12; Manufacturer: National Semiconductor; PackageTopMarking: NSZXYTTE# LM140LAH-12; PowerWise: N; CompType: LDO IC; High-Reliability: Y; Published: 4-Dec-2008; DatasheetVersion: Jul-2005; PackageVersion: revD, Feb-1995; PackageReference: H03A; Publisher: Altium Limited; PackageDescription: Metal Can, TO-39, 3 Lead, .200in Dia, P.C.; Supplier 1: Farnell; Supplier Part Number 1: 1216180; RoHS: N; PinCount: 3; Code_JEDEC: TO-39; ComponentLink1Description: LM140L Datasheet; ComponentLink1URL: http://www.national.com/ds/LM/LM140L.pdf; ComponentLink2Description: LM140L Web Page; ComponentLink2URL: http://www.national.com/pf/LM/LM140L.html; ComponentLink3Description: H03A Package Page; ComponentLink3URL: http://www.national.com/packaging/folders/h03a.html
footprint H03A (Can; 3 Leads; Pin Circle Dia. 5.08 mm; Lead Dia. 0.48 mm (max))
pins: 1 IN (power), 2 OUT (power), 3 GND (power)

## LM140LAH-12/883
designator U?
Series 3-Terminal Positive Regulators, 3-pin TO-39; PartNumber: LM140LAH-12/883; Manufacturer: National Semiconductor; PackageTopMarking: NS ZSSXXYYA*LM140LAH-12/883 Q; PowerWise: N; CompType: LDO IC; High-Reliability: Y; Published: 4-Dec-2008; DatasheetVersion: Jul-2005; PackageVersion: revD, Feb-1995; PackageReference: H03A; Publisher: Altium Limited; PackageDescription: Metal Can, TO-39, 3 Lead, .200in Dia, P.C.; RoHS: N; PinCount: 3; Code_JEDEC: TO-39; ComponentLink1Description: LM140L Datasheet; ComponentLink1URL: http://www.national.com/ds/LM/LM140LQML.pdf; ComponentLink2Description: LM140L Web Page; ComponentLink2URL: http://www.national.com/pf/LM/LM140L.html; ComponentLink3Description: H03A Package Page; ComponentLink3URL: http://www.national.com/packaging/folders/h03a.html
footprint H03A (Can; 3 Leads; Pin Circle Dia. 5.08 mm; Lead Dia. 0.48 mm (max))
pins: 1 IN (power), 2 OUT (power), 3 GND (power)

## LM140LAH-15
designator U?
Series 3-Terminal Positive Regulators, 3-pin TO-39; PartNumber: LM140LAH-15; Manufacturer: National Semiconductor; PackageTopMarking: NSZXYTTE# LM140LAH-15; PowerWise: N; CompType: LDO IC; High-Reliability: Y; Published: 4-Dec-2008; DatasheetVersion: Jul-2005; PackageVersion: revD, Feb-1995; PackageReference: H03A; Publisher: Altium Limited; PackageDescription: Metal Can, TO-39, 3 Lead, .200in Dia, P.C.; RoHS: N; PinCount: 3; Code_JEDEC: TO-39; ComponentLink1Description: LM140L Datasheet; ComponentLink1URL: http://www.national.com/ds/LM/LM140L.pdf; ComponentLink2Description: LM140L Web Page; ComponentLink2URL: http://www.national.com/pf/LM/LM140L.html; ComponentLink3Description: H03A Package Page; ComponentLink3URL: http://www.national.com/packaging/folders/h03a.html
footprint H03A (Can; 3 Leads; Pin Circle Dia. 5.08 mm; Lead Dia. 0.48 mm (max))
pins: 1 IN (power), 2 OUT (power), 3 GND (power)

## LM140LAH-15/883
designator U?
Series 3-Terminal Positive Regulators, 3-pin TO-39; PartNumber: LM140LAH-15/883; Manufacturer: National Semiconductor; PackageTopMarking: NS ZSSXXYYA*LM140LAH-15/883 Q; PowerWise: N; CompType: LDO IC; High-Reliability: Y; Published: 4-Dec-2008; DatasheetVersion: Jul-2005; PackageVersion: revD, Feb-1995; PackageReference: H03A; Publisher: Altium Limited; PackageDescription: Metal Can, TO-39, 3 Lead, .200in Dia, P.C.; RoHS: N; PinCount: 3; Code_JEDEC: TO-39; ComponentLink1Description: LM140L Datasheet; ComponentLink1URL: http://www.national.com/ds/LM/LM140LQML.pdf; ComponentLink2Description: LM140L Web Page; ComponentLink2URL: http://www.national.com/pf/LM/LM140L.html; ComponentLink3Description: H03A Package Page; ComponentLink3URL: http://www.national.com/packaging/folders/h03a.html
footprint H03A (Can; 3 Leads; Pin Circle Dia. 5.08 mm; Lead Dia. 0.48 mm (max))
pins: 1 IN (power), 2 OUT (power), 3 GND (power)

## LM309H
designator U?
5-Volt Regulator, 3-pin TO-39; PartNumber: LM309H; Manufacturer: National Semiconductor; PackageTopMarking: NSZXYTTE# LM309HP+; PowerWise: N; CompType: LDO IC; High-Reliability: Y; Published: 4-Dec-2008; DatasheetVersion: Apr-1998; PackageVersion: revD, Feb-1995; PackageReference: H03A; Publisher: Altium Limited; PackageDescription: Metal Can, TO-39, 3 Lead, .200in Dia, P.C.; Supplier 1: Farnell; Supplier Part Number 1: 1216178; RoHS: N; PinCount: 3; Code_JEDEC: TO-39; ComponentLink1Description: LM309 Datasheet; ComponentLink1URL: http://www.national.com/ds/LM/LM309.pdf; ComponentLink2Description: LM309 Web Page; ComponentLink2URL: http://www.national.com/pf/LM/LM309.html; ComponentLink3Description: H03A Package Page; ComponentLink3URL: http://www.national.com/packaging/folders/h03a.html
footprint H03A (Can; 3 Leads; Pin Circle Dia. 5.08 mm; Lead Dia. 0.48 mm (max))
pins: 1 IN (power), 2 OUT (power), 3 GND (power)

## LM317AEMP
designator U?
3-Terminal Adjustable Regulator, 4-pin SOT-223; PartNumber: LM317AEMP; Manufacturer: National Semiconductor; PackageTopMarking: XYTT*N07A; PowerWise: N; CompType: LDO IC; Published: 4-Dec-2008; DatasheetVersion: Apr-2007; PackageVersion: revB, Apr-2003; PackageReference: MP04A; Publisher: Altium Limited; PackageDescription: Molded SOT-223, 6.50 x 3.56 x 1.6mm Body, 4 Lead, 2.3mm Pitch; Supplier 1: Farnell; Supplier Part Number 1: 9779272RL; Supplier 2: Farnell; Supplier Part Number 2: 9779272; RoHS: N; PinCount: 4; Code_JEDEC: TO-261-AA; Code_IPC: SOT223-4; ComponentLink1Description: LM317 Datasheet; ComponentLink1URL: http://www.national.com/ds/LM/LM317.pdf; ComponentLink2Description: LM317 Web Page; ComponentLink2URL: http://www.national.com/pf/LM/LM317.html; ComponentLink3Description: MP04A Package Page; ComponentLink3URL: http://www.national.com/packaging/folders/mp04a.html
footprint MP04A_N (SOT223, 4-Leads, Body 6.5x3.5mm, Pitch 2.3mm, Lead Span 7mm, IPC Medium Density)
footprint MP04A_L (SOT223, 4-Leads, Body 6.5x3.5mm, Pitch 2.3mm, Lead Span 7mm, IPC High Density)
footprint MP04A_M (SOT223, 4-Leads, Body 6.5x3.5mm, Pitch 2.3mm, Lead Span 7mm, IPC Low Density)
pins: 1 ADJ (in), 2 OUT (power), 3 IN (power), 4 TAB (power)

## LM317AEMP/NOPB
designator U?
3-Terminal Adjustable Regulator, 4-pin SOT-223, Pb-Free; PartNumber: LM317AEMP/NOPB; Manufacturer: National Semiconductor; PackageTopMarking: XYTT*N07A; PowerWise: N; CompType: LDO IC; Published: 1-Mar-2010; DatasheetVersion: Apr-2007; PackageVersion: revB, Apr-2003; PackageReference: MP04A; Publisher: Altium Limited; PackageDescription: Molded SOT-223, 6.50 x 3.56 x 1.6mm Body, 4 Lead, 2.3mm Pitch; Supplier 1: Digi-Key; Supplier Part Number 1: LM317AEMPTR-ND; Supplier 2: Digi-Key; Supplier Part Number 2: LM317AEMPCT-ND; Supplier 3: Digi-Key; Supplier Part Number 3: LM317AEMPDKR-ND; Supplier 4: Farnell; Supplier Part Number 4: 1469084; RoHS: Y; PinCount: 4; Code_JEDEC: TO-261-AA; Code_IPC: SOT223-4; ComponentLink1Description: LM317 Datasheet; ComponentLink1URL: http://www.national.com/ds/LM/LM317.pdf; ComponentLink2Description: LM317 Web Page; ComponentLink2URL: http://www.national.com/pf/LM/LM317.html; ComponentLink3Description: MP04A Package Page; ComponentLink3URL: http://www.national.com/packaging/folders/mp04a.html
footprint MP04A_N (SOT223, 4-Leads, Body 6.5x3.5mm, Pitch 2.3mm, Lead Span 7mm, IPC Medium Density)
footprint MP04A_L (SOT223, 4-Leads, Body 6.5x3.5mm, Pitch 2.3mm, Lead Span 7mm, IPC High Density)
footprint MP04A_M (SOT223, 4-Leads, Body 6.5x3.5mm, Pitch 2.3mm, Lead Span 7mm, IPC Low Density)
pins: 1 ADJ (in), 2 OUT (power), 3 IN (power), 4 TAB (power)

## LM317AEMPX
designator U?
3-Terminal Adjustable Regulator, 4-pin SOT-223; PartNumber: LM317AEMPX; Manufacturer: National Semiconductor; PackageTopMarking: XYTT*N07A; PowerWise: N; CompType: LDO IC; Published: 1-Mar-2010; DatasheetVersion: Apr-2007; PackageVersion: revB, Apr-2003; PackageReference: MP04A; Publisher: Altium Limited; PackageDescription: Molded SOT-223, 6.50 x 3.56 x 1.6mm Body, 4 Lead, 2.3mm Pitch; RoHS: N; PinCount: 4; Code_JEDEC: TO-261-AA; Code_IPC: SOT223-4; ComponentLink1Description: LM317 Datasheet; ComponentLink1URL: http://www.national.com/ds/LM/LM317.pdf; ComponentLink2Description: LM317 Web Page; ComponentLink2URL: http://www.national.com/pf/LM/LM317.html; ComponentLink3Description: MP04A Package Page; ComponentLink3URL: http://www.national.com/packaging/folders/mp04a.html
footprint MP04A_N (SOT223, 4-Leads, Body 6.5x3.5mm, Pitch 2.3mm, Lead Span 7mm, IPC Medium Density)
footprint MP04A_L (SOT223, 4-Leads, Body 6.5x3.5mm, Pitch 2.3mm, Lead Span 7mm, IPC High Density)
footprint MP04A_M (SOT223, 4-Leads, Body 6.5x3.5mm, Pitch 2.3mm, Lead Span 7mm, IPC Low Density)
pins: 1 ADJ (in), 2 OUT (power), 3 IN (power), 4 TAB (power)

## LM317AH
designator U?
3-Terminal Adjustable Regulator, 3-pin TO-39; PartNumber: LM317AH; Manufacturer: National Semiconductor; PackageTopMarking: NSZXYTTE# LM317AHP+; PowerWise: N; CompType: LDO IC; High-Reliability: Y; Published: 4-Dec-2008; DatasheetVersion: Apr-2007; PackageVersion: revD, Feb-1995; PackageReference: H03A; Publisher: Altium Limited; PackageDescription: Metal Can, TO-39, 3 Lead, .200in Dia, P.C.; RoHS: N; PinCount: 3; Code_JEDEC: TO-39; ComponentLink1Description: LM317 Datasheet; ComponentLink1URL: http://www.national.com/ds/LM/LM317.pdf; ComponentLink2Description: LM317 Web Page; ComponentLink2URL: http://www.national.com/pf/LM/LM317.html; ComponentLink3Description: H03A Package Page; ComponentLink3URL: http://www.national.com/packaging/folders/h03a.html
footprint H03A (Can; 3 Leads; Pin Circle Dia. 5.08 mm; Lead Dia. 0.48 mm (max))
pins: 1 IN (power), 2 ADJ (in), 3 OUT (power)

## LM317AMDT
designator U?
3-Terminal Adjustable Regulator, 3-pin TO-252; PartNumber: LM317AMDT; Manufacturer: National Semiconductor; PackageTopMarking: NSUZXYTT*LM317*AMDT; PowerWise: N; CompType: LDO IC; Published: 4-Dec-2008; DatasheetVersion: Apr-2007; PackageVersion: revD, Feb-2009; PackageReference: TD03B; Publisher: Altium Limited; PackageDescription: TO252, Molded, Jedec, 6.8 x 6.10 x 2.30mm Body, 3 Lead, 2.28mm Pitch, Surface Mount; Supplier 1: Farnell; Supplier Part Number 1: 9493301; RoHS: N; PinCount: 3; Code_JEDEC: TO-252-AA; ComponentLink1Description: LM317 Datasheet; ComponentLink1URL: http://www.national.com/ds/LM/LM317.pdf; ComponentLink2Description: LM317 Web Page; ComponentLink2URL: http://www.national.com/pf/LM/LM317.html; ComponentLink3Description: TD03B Package Page; ComponentLink3URL: http://www.national.com/packaging/folders/td03b.html
footprint TD03B_N (D-PAK, 4-Leads, Body 6.1x6.6mm, Pitch 2.29mm, Lead Span 9.7mm, IPC Medium Density)
footprint TD03B_L (D-PAK, 4-Leads, Body 6.1x6.6mm, Pitch 2.29mm, Lead Span 9.7mm, IPC High Density)
footprint TD03B_M (D-PAK, 4-Leads, Body 6.1x6.6mm, Pitch 2.29mm, Lead Span 9.7mm, IPC Low Density)
pins: 1 ADJ (in), 3 IN (power), 4 OUT (power)

## LM317AMDT/NOPB
designator U?
3-Terminal Adjustable Regulator, 3-pin TO-252, Pb-Free; PartNumber: LM317AMDT/NOPB; Manufacturer: National Semiconductor; PackageTopMarking: NSUZXYTT*LM317*AMDT; PowerWise: N; CompType: LDO IC; Published: 1-Mar-2010; DatasheetVersion: Apr-2007; PackageVersion: revD, Feb-2009; PackageReference: TD03B; Publisher: Altium Limited; PackageDescription: TO252, Molded, Jedec, 6.8 x 6.10 x 2.30mm Body, 3 Lead, 2.28mm Pitch, Surface Mount; Supplier 1: Digi-Key; Supplier Part Number 1: LM317AMDT-ND; RoHS: Y; PinCount: 3; Code_JEDEC: TO-252-AA; ComponentLink1Description: LM317 Datasheet; ComponentLink1URL: http://www.national.com/ds/LM/LM317.pdf; ComponentLink2Description: LM317 Web Page; ComponentLink2URL: http://www.national.com/pf/LM/LM317.html; ComponentLink3Description: TD03B Package Page; ComponentLink3URL: http://www.national.com/packaging/folders/td03b.html
footprint TD03B_N (D-PAK, 4-Leads, Body 6.1x6.6mm, Pitch 2.29mm, Lead Span 9.7mm, IPC Medium Density)
footprint TD03B_L (D-PAK, 4-Leads, Body 6.1x6.6mm, Pitch 2.29mm, Lead Span 9.7mm, IPC High Density)
footprint TD03B_M (D-PAK, 4-Leads, Body 6.1x6.6mm, Pitch 2.29mm, Lead Span 9.7mm, IPC Low Density)
pins: 1 ADJ (in), 3 IN (power), 4 OUT (power)

## LM317AMDTX
designator U?
3-Terminal Adjustable Regulator, 3-pin TO-252; PartNumber: LM317AMDTX; Manufacturer: National Semiconductor; PackageTopMarking: NSUZXYTT*LM317*AMDT; PowerWise: N; CompType: LDO IC; Published: 1-Mar-2010; DatasheetVersion: Apr-2007; PackageVersion: revD, Feb-2009; PackageReference: TD03B; Publisher: Altium Limited; PackageDescription: TO252, Molded, Jedec, 6.8 x 6.10 x 2.30mm Body, 3 Lead, 2.28mm Pitch, Surface Mount; RoHS: N; PinCount: 3; Code_JEDEC: TO-252-AA; ComponentLink1Description: LM317 Datasheet; ComponentLink1URL: http://www.national.com/ds/LM/LM317.pdf; ComponentLink2Description: LM317 Web Page; ComponentLink2URL: http://www.national.com/pf/LM/LM317.html; ComponentLink3Description: TD03B Package Page; ComponentLink3URL: http://www.national.com/packaging/folders/td03b.html
footprint TD03B_N (D-PAK, 4-Leads, Body 6.1x6.6mm, Pitch 2.29mm, Lead Span 9.7mm, IPC Medium Density)
footprint TD03B_L (D-PAK, 4-Leads, Body 6.1x6.6mm, Pitch 2.29mm, Lead Span 9.7mm, IPC High Density)
footprint TD03B_M (D-PAK, 4-Leads, Body 6.1x6.6mm, Pitch 2.29mm, Lead Span 9.7mm, IPC Low Density)
pins: 1 ADJ (in), 3 IN (power), 4 OUT (power)

## LM317AT
designator U?
3-Terminal Adjustable Regulator, 3-pin TO-220; PartNumber: LM317AT; Manufacturer: National Semiconductor; PackageTopMarking: NSUZXYTTE#*LM317AT P+; PowerWise: N; CompType: LDO IC; Published: 4-Dec-2008; DatasheetVersion: Apr-2007; PackageVersion: revL, Jan-1992; PackageReference: T03B; Publisher: Altium Limited; PackageDescription: TO-220, Molded, 3 Lead, Straight; Supplier 1: Farnell; Supplier Part Number 1: 1523841; Supplier 2: Farnell; Supplier Part Number 2: 9489380; RoHS: N; PinCount: 3; ComponentLink1Description: LM317 Datasheet; ComponentLink1URL: http://www.national.com/ds/LM/LM317.pdf; ComponentLink2Description: LM317 Web Page; ComponentLink2URL: http://www.national.com/pf/LM/LM317.html; ComponentLink3Description: T03B Package Page; ComponentLink3URL: http://www.national.com/packaging/folders/t03b.html
footprint T03B (TO, Thru-Hole, Vertical, Heatsink Mounted; 3 In-Line Leads; Pitch 2.54 mm)
pins: 1 ADJ (in), 2 OUT (power), 3 IN (power)

## LM317AT/NOPB
designator U?
3-Terminal Adjustable Regulator, 3-pin TO-220, Pb-Free; PartNumber: LM317AT/NOPB; Manufacturer: National Semiconductor; PackageTopMarking: NSUZXYTTE#*LM317AT P+; PowerWise: N; CompType: LDO IC; Published: 1-Mar-2010; DatasheetVersion: Apr-2007; PackageVersion: revL, Jan-1992; PackageReference: T03B; Publisher: Altium Limited; PackageDescription: TO-220, Molded, 3 Lead, Straight; Supplier 1: Digi-Key; Supplier Part Number 1: LM317AT-ND; Supplier 2: Farnell; Supplier Part Number 2: 1469085; RoHS: Y; PinCount: 3; ComponentLink1Description: LM317 Datasheet; ComponentLink1URL: http://www.national.com/ds/LM/LM317.pdf; ComponentLink2Description: LM317 Web Page; ComponentLink2URL: http://www.national.com/pf/LM/LM317.html; ComponentLink3Description: T03B Package Page; ComponentLink3URL: http://www.national.com/packaging/folders/t03b.html
footprint T03B (TO, Thru-Hole, Vertical, Heatsink Mounted; 3 In-Line Leads; Pitch 2.54 mm)
pins: 1 ADJ (in), 2 OUT (power), 3 IN (power)

## LM317EMP
designator U?
3-Terminal Adjustable Regulator, 4-pin SOT-223; PartNumber: LM317EMP; Manufacturer: National Semiconductor; PackageTopMarking: XYTT*N01A; PowerWise: N; CompType: LDO IC; Published: 4-Dec-2008; DatasheetVersion: Apr-2007; PackageVersion: revB, Apr-2003; PackageReference: MP04A; Publisher: Altium Limited; PackageDescription: Molded SOT-223, 6.50 x 3.56 x 1.6mm Body, 4 Lead, 2.3mm Pitch; Supplier 1: Farnell; Supplier Part Number 1: 3327164RL; Supplier 2: Farnell; Supplier Part Number 2: 3327164; RoHS: N; PinCount: 4; Code_JEDEC: TO-261-AA; Code_IPC: SOT223-4; ComponentLink1Description: LM317 Datasheet; ComponentLink1URL: http://www.national.com/ds/LM/LM317.pdf; ComponentLink2Description: LM317 Web Page; ComponentLink2URL: http://www.national.com/pf/LM/LM317.html; ComponentLink3Description: MP04A Package Page; ComponentLink3URL: http://www.national.com/packaging/folders/mp04a.html
footprint MP04A_N (SOT223, 4-Leads, Body 6.5x3.5mm, Pitch 2.3mm, Lead Span 7mm, IPC Medium Density)
footprint MP04A_L (SOT223, 4-Leads, Body 6.5x3.5mm, Pitch 2.3mm, Lead Span 7mm, IPC High Density)
footprint MP04A_M (SOT223, 4-Leads, Body 6.5x3.5mm, Pitch 2.3mm, Lead Span 7mm, IPC Low Density)
pins: 1 ADJ (in), 2 OUT (power), 3 IN (power), 4 TAB (power)